# Altium footprint library B02B-PASK-1.PcbLib: 1 footprints
Each footprint in its own frame and in the unit in brackets; x right, y up, seen from the top. Pads: shape width x height; smd on the part's side, far side on the other; paste and mask are expansions set on the pad; w line width, h text height; cw(c..) or ccw(c..) is an arc to the next point about the centre after c.
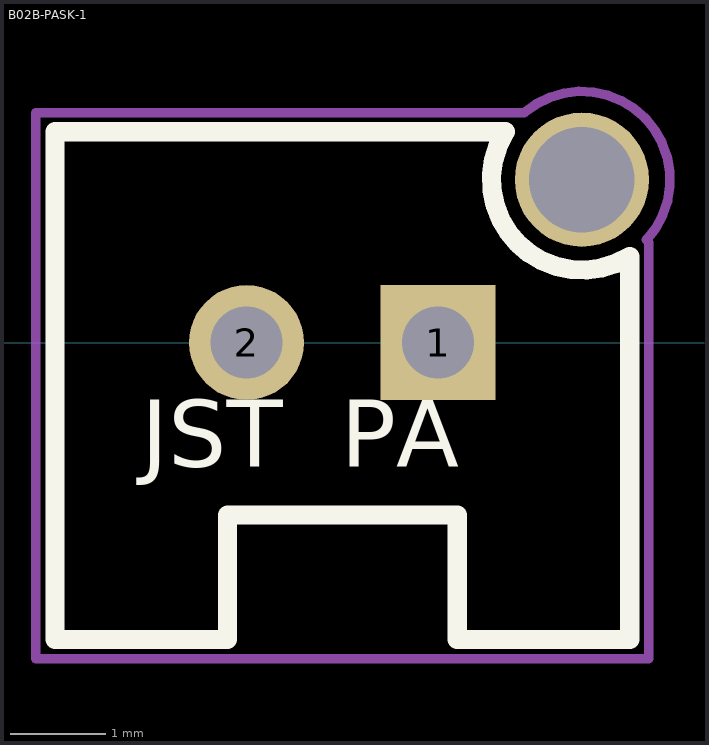
[diagram p0: the footprint, top view; thin cyan lines are the x and y axes]

## B02B-PASK-1 [mm] "JST (JAPAN SOLDERLESS TERMINALS) - B02B-PASK-1 - HEADER, PA, 2WAY, TOP, 2MM, W/BOSS"
height 7.7
pads (3):
  rect 1.2x1.2 hole 0.75: 1(6,0)
  round 1.2 hole 0.75: 2(4,0)
  round 1.4 hole 1.1: ""(7.5,1.7)
Top Overlay:
  lines w0.2: 2,-3.1 3.8,-3.1 3.8,-1.8 6.2,-1.8 6.2,-3.1 8,-3.1 8,0.9 cw(c7.5,1.7) 6.7,2.2 2,2.2 2,-3.1
  text "JST  PA" at 2.9,-1.525 h1.2
Mechanical 15:
  lines w0.1: 8.175,1.072 ccw(c7.5,1.7) 6.9,2.4 1.8,2.4 1.8,-3.3 6.8,-3.3 8.2,-3.3 8.2,1.048
3D body: height 7.75, standoff -2.95, extent 2,-3.1 8,2.2